# Altium footprint library hydrophone preamplifier.PcbLib: 11 footprints
Each footprint in its own frame and in the unit in brackets; x right, y up, seen from the top. Pads: shape width x height; smd on the part's side, far side on the other; paste and mask are expansions set on the pad; w line width, h text height; cw(c..) or ccw(c..) is an arc to the next point about the centre after c.
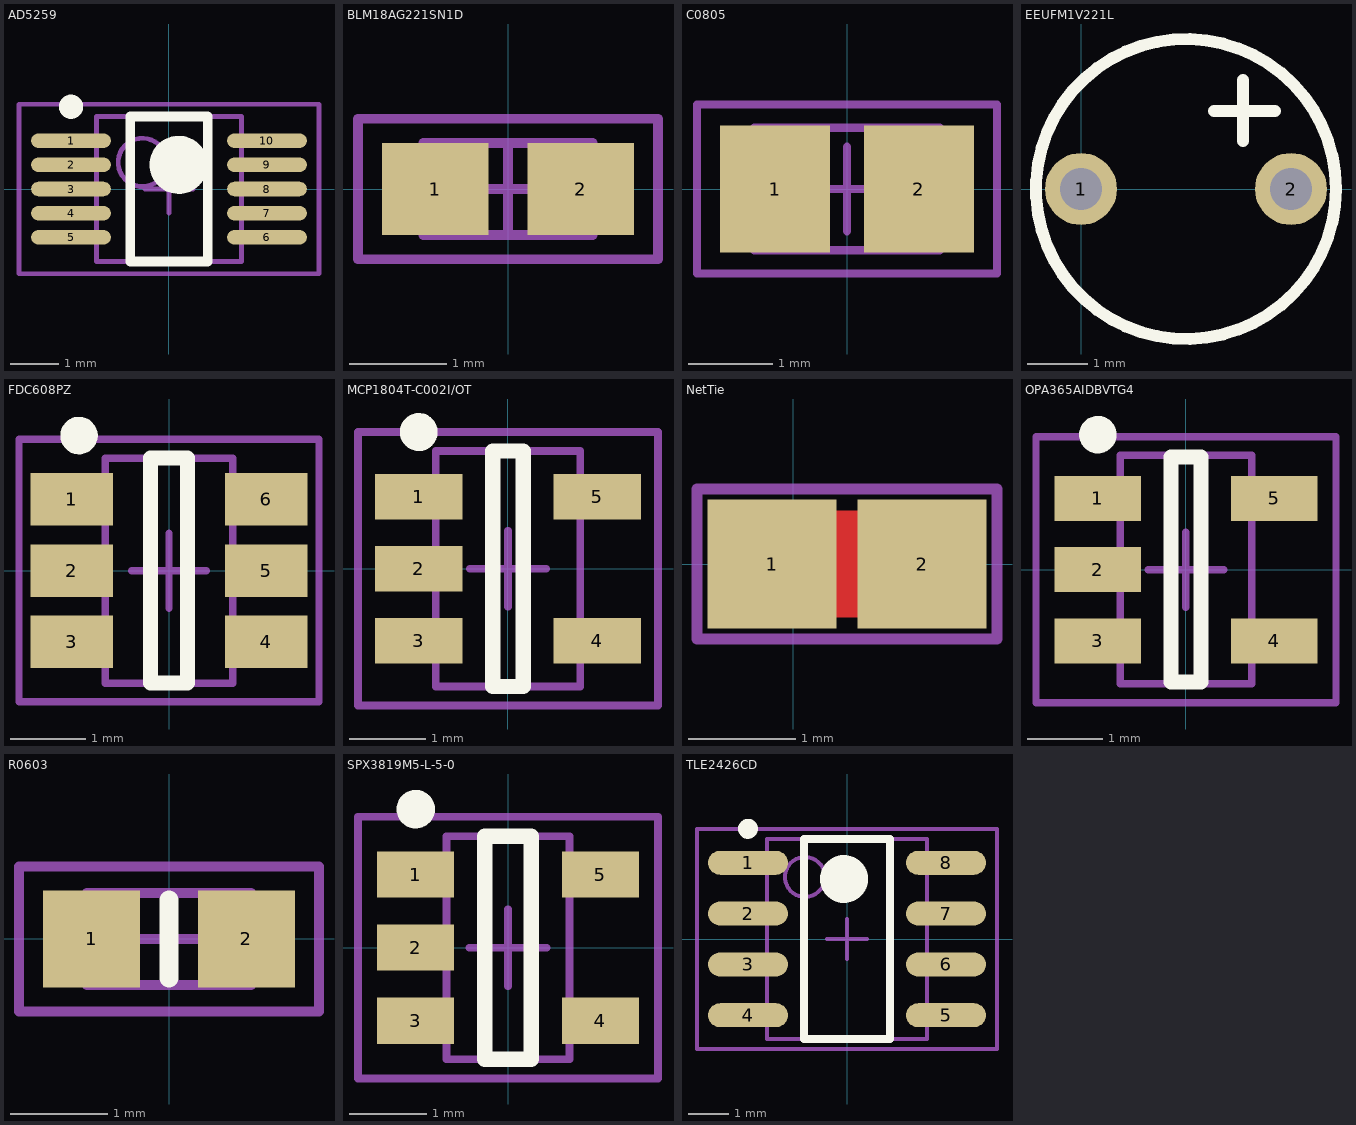
[diagram p0: the footprints below, top view; thin cyan lines are the x and y axes]

## AD5259 [mm]
height 1.1
pads (10):
  oval 1.65x0.3 smd: 1(-2.025,1) 2(-2.025,0.5) 3(-2.025,0) 4(-2.025,-0.5) 5(-2.025,-1) 6(2.025,-1) 7(2.025,-0.5) 8(2.025,0) 9(2.025,0.5) 10(2.025,1)
Top Overlay:
  circle w0.25: c-2.025,1.7 r0.125
  circle w0.6: c0.2,0.5 r0.3
  lines w0.2: -0.8,-1.5 -0.8,1.5 0.8,1.5 0.8,-1.5 -0.8,-1.5
Mechanical 13:
  circle w0.1: c-0.55,0.55 r0.5
  lines w0.1: -1.5,-1.5 -1.5,1.5 1.5,1.5 1.5,-1.5 -1.5,-1.5
Mechanical 15:
  lines w0.1: -0.5,0 0.5,0 ; 0,-0.5 0,0.5 ; -3.1,-1.75 -3.1,1.75 3.1,1.75 3.1,-1.75 -3.1,-1.75
3D body: height 1.1, standoff 0.08, extent -1.5,-1.5 1.5,1.5

## BLM18AG221SN1D [mm] "MURATA - BLM18AG221SN1D - FERRITE BEAD, 0603 CASE, 220OHM"
height 0.95
pads (2):
  rect 1.1x0.95 smd: 1(-0.75,0) 2(0.75,0)
Mechanical 13:
  lines w0.1: -0.875,-0.475 -0.875,0.475 0.875,0.475 0.875,-0.475 -0.875,-0.475
Mechanical 15:
  lines w0.1: -0.475,0 0.475,0 ; 0,-0.475 0,0.475 ; -1.55,-0.725 -1.55,0.725 1.55,0.725 1.55,-0.725 -1.55,-0.725
3D body: height 0.95, standoff 0, extent -0.875,-0.475 0.875,0.475

## C0805 [mm] "CAPACITOR 0805"
height 0.87
pads (2):
  rect 1.3x1.5 smd: 1(-0.85,0) 2(0.85,0)
Mechanical 13:
  lines w0.1: -1.1,-0.725 1.1,-0.725 1.1,0.725 -1.1,0.725 -1.1,-0.725
Mechanical 15:
  lines w0.1: -0.5,0 0.5,0 ; 0,-0.5 0,0.5 ; -1.775,-1 1.775,-1 1.775,1 -1.775,1 -1.775,-1
3D body: height 0.87, standoff 0, extent -1.1,-0.725 1.1,0.725

## EEUFM1V221L [mm]
height 15
pads (2):
  round 1.2 hole 0.7: 1(0,0) 2(3.5,0)
Top Overlay:
  circle w0.2: c1.75,0 r2.5
  lines w0.2: 2.217,1.3 3.233,1.3 ; 2.7,0.8 2.7,1.816

## FDC608PZ [mm] "FAIRCHILD SEMICONDUCTOR - FDC608PZ - MOSFET, P, SMD, SSOT-6"
height 1.1
pads (6):
  rect 1.1x0.7 smd: 1(-1.3,0.95) 2(-1.3,0) 3(-1.3,-0.95) 4(1.3,-0.95) 5(1.3,0) 6(1.3,0.95)
Top Overlay:
  circle w0.25: c-1.2,1.8 r0.125
  lines w0.2: -0.25,-1.5 -0.25,1.5 0.25,1.5 0.25,-1.5 -0.25,-1.5
Mechanical 13:
  lines w0.1: -0.85,-1.5 0.85,-1.5 0.85,1.5 -0.85,1.5 -0.85,-1.5
Mechanical 15:
  lines w0.1: -0.5,0 0.5,0 ; 0,-0.5 0,0.5 ; -2,-1.75 2,-1.75 2,1.75 -2,1.75 -2,-1.75
3D body: height 1.1, standoff 0.1, extent -0.85,-1.5 0.85,1.5

## MCP1804T-C002I/OT [mm]
height 1.45
pads (5):
  rect 1.15x0.6 smd: 1(-1.175,0.95) 2(-1.175,0) 3(-1.175,-0.95) 4(1.175,-0.95) 5(1.175,0.95)
Top Overlay:
  circle w0.25: c-1.175,1.8 r0.125
  lines w0.2: -0.2,-1.55 0.2,-1.55 0.2,1.55 -0.2,1.55 -0.2,-1.55
Mechanical 13:
  lines w0.1: -0.95,-1.55 -0.95,1.55 0.95,1.55 0.95,-1.55 -0.95,-1.55
Mechanical 15:
  lines w0.1: -0.5,0 0.5,0 ; 0,-0.5 0,0.5 ; -1.975,-1.8 -1.975,1.8 1.975,1.8 1.975,-1.8 -1.975,-1.8
3D body: height 1.45, standoff 0.15, extent -0.95,-1.55 0.95,1.55

## NetTie [mm] "Net Tie"
pads (2):
  rect 1.2x1.2 smd: 1(-0.2,0) 2(1.2,0)
Top Layer:
  lines w1: -0.2,0 1.2,0
Mechanical 15:
  lines w0.1: -0.9,-0.7 1.9,-0.7 1.9,0.7 -0.9,0.7 -0.9,-0.7

## OPA365AIDBVTG4 [mm]
height 1.45
pads (5):
  rect 1.15x0.6 smd: 1(-1.175,0.95) 2(-1.175,0) 3(-1.175,-0.95) 4(1.175,-0.95) 5(1.175,0.95)
Top Overlay:
  circle w0.25: c-1.175,1.8 r0.125
  lines w0.2: -0.2,-1.5 -0.2,1.5 0.2,1.5 0.2,-1.5 -0.2,-1.5
Mechanical 13:
  lines w0.1: -0.875,-1.525 0.875,-1.525 0.875,1.525 -0.875,1.525 -0.875,-1.525
Mechanical 15:
  lines w0.1: -0.5,0 0.5,0 ; 0,-0.5 0,0.5 ; -2,-1.775 2,-1.775 2,1.775 -2,1.775 -2,-1.775
3D body: height 1.45, standoff 0.15, extent -0.875,-1.525 0.875,1.525

## R0603 [mm]
height 0.45
pads (2):
  rect 1x1 smd: 1(-0.8,0) 2(0.8,0)
Top Overlay:
  lines w0.2: 0,-0.4 0,0.4
Mechanical 13:
  lines w0.1: -0.85,-0.475 0.85,-0.475 0.85,0.475 -0.85,0.475 -0.85,-0.475
Mechanical 15:
  lines w0.1: -0.475,0 0.475,0 ; 0,-0.475 0,0.475 ; -1.55,-0.75 1.55,-0.75 1.55,0.75 -1.55,0.75 -1.55,-0.75
3D body: height 0.45, standoff 0, extent -0.85,-0.475 0.85,0.475

## SPX3819M5-L-5-0 [mm]
height 1.45
pads (5):
  rect 1x0.6 smd: 1(-1.2,0.95) 2(-1.2,0) 3(-1.2,-0.95) 4(1.2,-0.95) 5(1.2,0.95)
Top Overlay:
  circle w0.25: c-1.2,1.8 r0.125
  lines w0.2: -0.3,-1.45 -0.3,1.45 0.3,1.45 0.3,-1.45 -0.3,-1.45
Mechanical 13:
  lines w0.1: -0.8,-1.45 0.8,-1.45 0.8,1.45 -0.8,1.45 -0.8,-1.45
Mechanical 15:
  lines w0.1: -0.5,0 0.5,0 ; 0,-0.5 0,0.5 ; -1.95,-1.7 1.95,-1.7 1.95,1.7 -1.95,1.7 -1.95,-1.7
3D body: height 1.45, standoff 0.15, extent -0.8,-1.45 0.8,1.45

## TLE2426CD [mm] "SOP, 8-Leads, Body 5.0x4.0mm (max), Pitch 1.27mm, IPC Medium Density"
height 1.75
pads (8):
  oval 2x0.6 smd: 1(-2.475,1.905) 2(-2.475,0.635) 3(-2.475,-0.635) 4(-2.475,-1.905) 5(2.475,-1.905) 6(2.475,-0.635) 7(2.475,0.635) 8(2.475,1.905)
Top Overlay:
  circle w0.25: c-2.475,2.755 r0.125
  circle w0.6: c-0.075,1.5 r0.3
  lines w0.2: -1.075,-2.5 -1.075,2.5 1.075,2.5 1.075,-2.5 -1.075,-2.5
Mechanical 13:
  circle w0.1: c-1.05,1.55 r0.5
  lines w0.1: -2,-2.5 -2,2.5 2,2.5 2,-2.5 -2,-2.5
Mechanical 15:
  lines w0.1: -0.5,0 0.5,0 ; 0,-0.5 0,0.5 ; -3.75,-2.75 -3.75,2.75 3.75,2.75 3.75,-2.75 -3.75,-2.75
3D body: height 1.75, standoff 0.25, extent -2,-2.5 2,2.5